# Altium footprint library LIB_TEMP_P20_FLORENT_COURNOYER_PCB.PcbLib: 4 footprints
Each footprint in its own frame and in the unit in brackets; x right, y up, seen from the top. Pads: shape width x height; smd on the part's side, far side on the other; paste and mask are expansions set on the pad; w line width, h text height; cw(c..) or ccw(c..) is an arc to the next point about the centre after c.
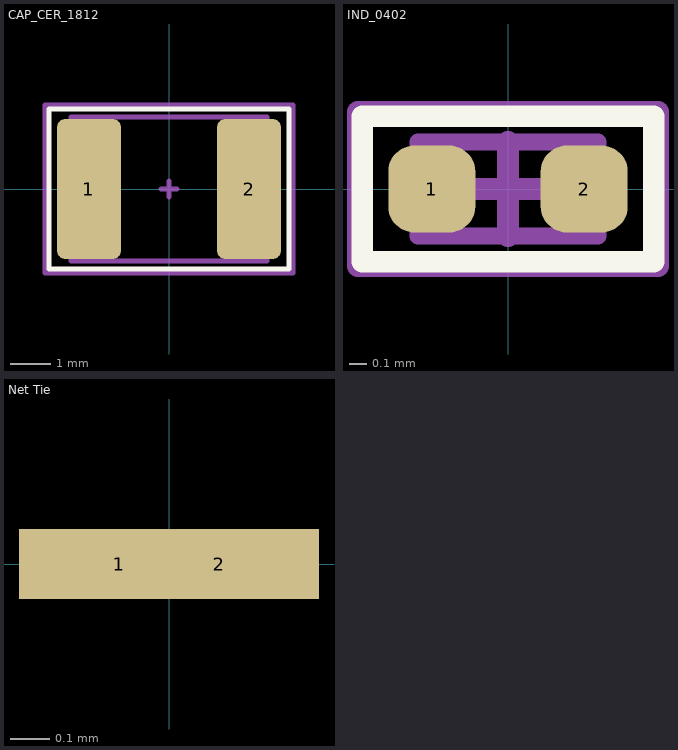
[diagram p0: the footprints below, top view; thin cyan lines are the x and y axes]

## CAP_CER_1812 [mm]
height 2.8
pads (2):
  rrect25% 1.6x3.5 smd paste-0.025 mask+0.05: 1(-2,0) 2(2,0)
Top Overlay:
  lines w0.127: -3,-2 -3,2 3,2 3,-2 -3,-2
Mechanical 1:
  lines w0.127: -2.45,-1.8 -2.45,1.8 2.45,1.8 2.45,-1.8 -2.45,-1.8
Mechanical 15:
  lines w0.127: -0.2,0 0.2,0 ; 0,-0.2 0,0.2 ; -3.1,-2.1 3.1,-2.1 3.1,2.1 -3.1,2.1 -3.1,-2.1
3D body "User Library-SMD Ceramic Capacitors_1812 (4532)_GE.step": height 1.3, standoff 0, extent -2.306,-1.6 2.306,1.6

## IND_0402 [mil] "Ferrite - 0402"
height 23.62
pads (2):
  rrect60% 20x20 smd paste+0 mask+1.97: 1(-17.5,0) 2(17.5,0)
Top Overlay:
  lines w5: -33.46,-16.73 33.46,-16.73 33.46,16.73 -33.46,16.73 -33.46,-16.73
Mechanical 1:
  lines w3.94: -20.67,-10.83 20.67,-10.83 20.67,10.83 -20.67,10.83 -20.67,-10.83
Mechanical 15:
  lines w5: -10.83,0 10.83,0 ; 0,-10.83 0,10.83 ; -34.45,-17.72 -34.45,17.72 34.45,17.72 34.45,-17.72 -34.45,-17.72
3D body "44278.stp": height 19.29, standoff -0.39, extent -19.69,-9.84 19.68,9.84

## Net Tie [mil] "Net Tie for DDR3 lenght matching"
pads (2):
  rect 20x7 smd paste+0 mask+0: 1(-5,0) 2(5,0)

## PCBComponent_1 [mil]